# Altium schematic symbol library 场效应管.SchLib: 5 symbols
Pins are listed as number, name and electrical type; pins without a type are passive.

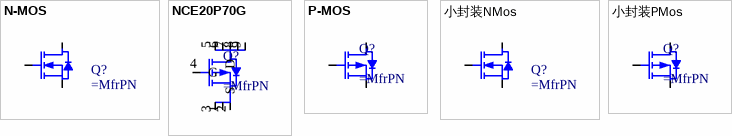
[diagram p0: symbols N-MOS to 小封装PMos]

## N-MOS
designator Q?
pins: 1 G, 2 D, 3 S

## NCE20P70G
designator Q?
pins: 1 S, 2 S, 3 S, 4 G, 5 D, 6 D, 7 D, 8 D, 9 D

## P-MOS
designator Q?
pins: 1 G, 2 D, 3 S

## 小封装NMos
designator Q?
pins: 1 G, 2 S, 3 D

## 小封装PMos
designator Q?
pins: 1 G, 2 S, 3 D